# Altium footprint library PLS-3R.PcbLib: 1 footprints
Each footprint in its own frame and in the unit in brackets; x right, y up, seen from the top. Pads: shape width x height; smd on the part's side, far side on the other; paste and mask are expansions set on the pad; w line width, h text height; cw(c..) or ccw(c..) is an arc to the next point about the centre after c.
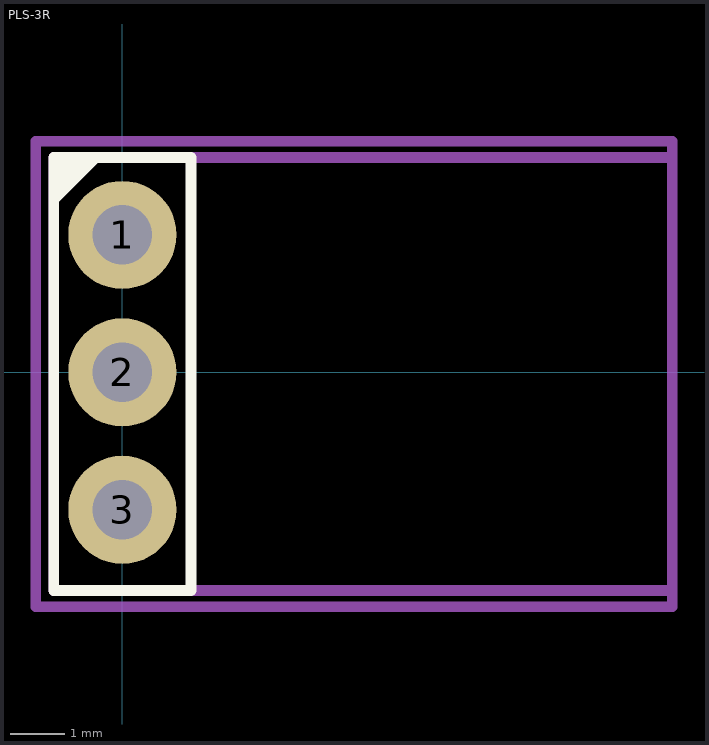
[diagram p0: the footprint, top view; thin cyan lines are the x and y axes]

## PLS-3R [mm] "2.54mm 3 pin male RA"
height 5
pads (3):
  round 2 hole 1.1: 1(0,2.54) 2(0,0) 3(0,-2.54)
Top Overlay:
  region: -1.23,4 -1.23,3.1 -0.33,4
  lines w0.2: -1.27,-4.03 1.27,-4.03 1.27,3.97 -1.27,3.97 -1.27,-4.03
Top Component Center:
  lines w0.2: -0.5,0 0.5,0 ; 0,-0.5 0,0.5
Top Assembly:
  lines w0.2: -1.27,-4.03 10.16,-4.03 10.16,3.97 -1.27,3.97 -1.27,-4.03
Top Courtyard:
  lines w0.2: -1.6,-4.33 10.16,-4.33 10.16,4.27 -1.6,4.27 -1.6,-4.33
3D body "DS1022_black_1x03p_100mil_TypeD_rev1.0.STEP": height 2.55, standoff -2.95, extent -0.344,-3.868 10.016,3.752